# Altium schematic symbol library Connectors.SchLib: 5 symbols
Pins are listed as number, name and electrical type; pins without a type are passive.

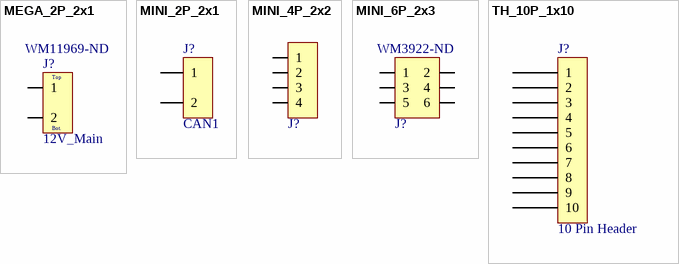
[diagram p0: symbols MEGA_2P_2x1 to TH_10P_1x10]

## MEGA_2P_2x1
designator J?, comment 12V_Main  Supplier Part Number 1: WM11969-ND
MOLEX - 76825-0002 - Wire-To-Board Connector, 2 Contacts, Header, Mega-Fit 76825 Series, Through Hole, 2 Rows; Manufacturer Part Number: 0768250002; SchematicInformation: MegaFit_2P; Manufacturer: Molex; DigiKey Part Number: WM11969-ND; Supplier 1: Digi-Key; RoHS: Yes; Category: Headers and Wire Housings; Stock 1: 16040; Pricing 1: 1=1.31000, 10=1.08200, 80=0.90150, 1850=0.67615, 3700=0.65361 (USD); ComponentLink1URL: http://www.farnell.com/datasheets/2216551.pdf?src-supplier=Farnell; ComponentLink1Description: http://www.farnell.com/datasheets/2216551.pdf?src-supplier=Farnell; ComponentLink2URL: https://www.molex.com/pdm_docs/sd/768250002_sd.pdf?src-supplier=Digi-Key; ComponentLink2Description: https://www.molex.com/pdm_docs/sd/768250002_sd.pdf?src-supplier=Digi-Key; ComponentLink3URL: http://www.farnell.com/datasheets/2216551.pdf?src-supplier=Newark; ComponentLink3Description: http://www.farnell.com/datasheets/2216551.pdf?src-supplier=Newark
footprint MEGA_2P_2x1
pins: 1, 2
text: Top; Bot.

## MINI_2P_2x1
designator J?, comment CAN1
Rectangular Power Connector, 2 Contact(s), Male, Solder Terminal, Plug; Manufacturer: Molex Inc; Manufacturer Part Number: 0039300020; Connector Type: Header, Shrouded; Number of Positions: 2; Number of Positions Loaded: All; Row Spacing: 0.165" (4.20mm); Option: General Purpose; Empty Shell: No; Mating Information: MULTIPLE MATING PARTS AVAILABLE; Throw Configuration: S0P2; Board Mounting Option: PEG; Contact Resistance: 10mR; Contact Style: SQ PIN-SKT; Dielectric Withstanding Voltage (AC): 1.5kV; Durability: 30Cycles; Insulation Resistance: 1GR; Number Of Connectors: 1; Body Breadth: 0.38inch; Body Depth: 0.72inch; Body Length: 0.21inch; Mounting Option 1: FRICTION RAMP; Mounting Option 2: LOCKING; Plating Thickness: 100uin; Reference Standard: UL; Reliability: COMMERCIAL; Ordering: http://search.digikey.com/scripts/DkSearch/dksus.dll?Detail&name=WM1351-ND; Datasheet: http://www.molex.com/pdm_docs/sd/039301020_sd.pdf; Supplier 1: Digi-Key; RoHS: RoHS Compliant; Category: Connectors, Interconnects; Stock 1: 32499; Pricing 1: 1=0.77000, 10=0.63700, 100=0.53090, 1000=0.42470, 5000=0.37162, 10000=0.35304 (USD); Contact Type: Male Pin; Pitch: -; Number of Rows: 2; Contact Mating Length: -; Mounting Type: Through Hole, Right Angle; Termination: Solder; Fastening Type: Locking Ramp; Features: Board Lock; Contact Finish: Tin; Contact Finish Thickness: 200µin (5.08µm); Color: Natural; Packaging: Tray; ComponentLink1URL: http://www.molex.com/pdm_docs/sd/039300020_sd.pdf; ComponentLink1Description: http://www.molex.com/pdm_docs/sd/039300020_sd.pdf; Supplier Part Number 1: WM21351-ND; Mount: Board; Contact Material: Brass; Contact Finish - Mating: TIN (200) OVER COPPER; Contact Finish - Termination: Tin/Copper (Sn/Cu); Shell Material: POLYAMIDE66; Insulation Color: Natural; Insulation Material: Nylon; Min Operating Temperature: -40°C; Max Operating Temperature: 105°C; JESD-609 Code: e2; Contact Gender: Male; Filter Feature: No; Mixed Contacts: No; Number of Contacts: 2; Body/Shell Style: PLUG; Mounting Style: RIGHT ANGLE; Terminal Length: 0.14inch; Flammability Rating: UL94 V-0; DIN Conformance: No; IEC Conformance: No; MIL Conformance: No; REACH SVHC: Yes; RoHS Compliant: Yes; ComponentLink2URL: https://datasheet.ciiva.com:443/pdfs/VipMasterIC/IC/MOLE/MOLE-S-A0003537933/MOLE-S-A0003536151-1.pdf?src-supplier=IHS+Markit; ComponentLink2Description: https://datasheet.ciiva.com:443/pdfs/VipMasterIC/IC/MOLE/MOLE-S-A0003537933/MOLE-S-A0003536151-1.pdf?src-supplier=IHS+Markit; ComponentLink3URL: https://datasheet.ciiva.com/5154/0039300020-pcb-headers-160124-5154532.pdf?src-supplier=Mouser; ComponentLink3Description: https://datasheet.ciiva.com/5154/0039300020-pcb-headers-160124-5154532.pdf?src-supplier=Mouser; ComponentLink4URL: https://datasheet.ciiva.com/11747/0900766b80d5d5b2-11747284.pdf?src-supplier=RSComponents; ComponentLink4Description: https://datasheet.ciiva.com/11747/0900766b80d5d5b2-11747284.pdf?src-supplier=RSComponents; ComponentLink5URL: https://datasheet.ciiva.com/1488/1734211-1488976.pdf?src-supplier=Newark; ComponentLink5Description: https://datasheet.ciiva.com/1488/1734211-1488976.pdf?src-supplier=Newark; ComponentLink6URL: https://datasheet.ciiva.com/30255/71950039300020-pcb-headers-30255810.pdf?src-supplier=Onlinecomponents.com; ComponentLink6Description: https://datasheet.ciiva.com/30255/71950039300020-pcb-headers-30255810.pdf?src-supplier=Onlinecomponents.com; ComponentLink7URL: https://datasheet.ciiva.com/19462/882146-19462209.pdf?src-supplier=Jameco; ComponentLink7Description: https://datasheet.ciiva.com/19462/882146-19462209.pdf?src-supplier=Jameco; ComponentLink8URL: https://datasheet.ciiva.com/16656/0039300020-pcb-headers-16656394.pdf?src-supplier=Avnet+Europe; ComponentLink8Description: https://datasheet.ciiva.com/16656/0039300020-pcb-headers-16656394.pdf?src-supplier=Avnet+Europe
footprint MINI_2P_2x1
pins: 1, 2

## MINI_4P_2x2
designator J?, comment Molex Mini-Fit Jr. 4-Pin no flange  (value not drawn)
4-Pin Molex Mini-Fit Jr. Header; Manufacturer Part Number: 0039301040; Connector Type: Header, Shrouded; Number of Positions: 4; Number of Positions Loaded: All; Pitch: 0.165" (4.20mm); Drawn By: Aaron Mills; Drawing Date: Jan. 2, 2011; Manufacturer: Molex; ComponentLink1URL: http://www.molex.com/pdm_docs/sd/039295043_sd.pdf; ComponentLink1Description: Datasheet; Supplier1: http://search.digikey.com/us/en/products/39-30-1040/WM1352-ND/561079; Supplier 1: Digi-Key; RoHS: RoHS Compliant; Category: Connectors, Interconnects; Stock 1: 4191; Pricing 1: 1=0.77, 10=0.674, 25=0.6344, 50=0.6078, 100=0.5815, 250=0.5286, 500=0.47574, 1000=0.42288, 2500=0.38324 (USD); Contact Type: Male Pin; Number of Rows: 2; Row Spacing: 0.165" (4.20mm); Contact Mating Length: -; Mounting Type: Through Hole, Right Angle; Termination: Solder; Fastening Type: Locking Ramp; Features: Board Lock; Contact Finish: Tin; Contact Finish Thickness: 100µin (2.54µm); Color: Natural; Packaging: Tray; ComponentLink2URL: http://www.molex.com/pdm_docs/sd/039301040_sd.pdf; ComponentLink2Description: http://www.molex.com/pdm_docs/sd/039301040_sd.pdf; Supplier Part Number 1: WM1352-ND
footprint MINI_4P_2x2
pins: 1, 2, 3, 4

## MINI_6P_2x3
designator J?, comment Supplier Part Number 2: WM3922-ND  (hidden comment: Molex Mini-Fit Jr. 6-Pin)
Rectangular Power Connector; Manufacturer Part Number: 0039295063; Drawn By: Aaron Mills; Drawing Date: Jan. 2, 2011; Manufacturer: Molex; ComponentLink1URL: http://www.molex.com/pdm_docs/sd/039295063_sd.pdf; ComponentLink1Description: Datasheet; ComponentLink2Description: Mechanical Drawing; Supplier 1: http://search.digikey.com/scripts/DkSearch/dksus.dll?Detail&name=WM3922-ND; Supplier 2: Digi-Key; RoHS: Yes; Category: Connectors; Stock 2: 691; Pricing 2: 1=2.39000, 10=2.03400, 100=1.68000, 1000=1.32631, 5000=1.17894 (USD); ComponentLink3URL: https://datasheet.ciiva.com:443/pdfs/VipMasterIC/IC/MOLE/MOLE-S-A0006877626/MOLE-S-A0006763003-1.pdf?src-supplier=IHS+Markit; ComponentLink3Description: https://datasheet.ciiva.com:443/pdfs/VipMasterIC/IC/MOLE/MOLE-S-A0006877626/MOLE-S-A0006763003-1.pdf?src-supplier=IHS+Markit; ComponentLink4URL: https://datasheet.ciiva.com/6814/039291208-sd-6814532.pdf?src-supplier=Digi-Key; ComponentLink4Description: https://datasheet.ciiva.com/6814/039291208-sd-6814532.pdf?src-supplier=Digi-Key
footprint MINI_6P_2x3
pins: 1, 2, 3, 4, 5, 6

## TH_10P_1x10
designator J?, comment 10 Pin Header
footprint 10 pin connector
pins: 1, 2, 3, 4, 5, 6, 7, 8, 9, 10